# Altium schematic symbol library diodes-inc-mosfet.SchLib: 27 symbols
Pins are listed as number, name and electrical type; pins without a type are passive.

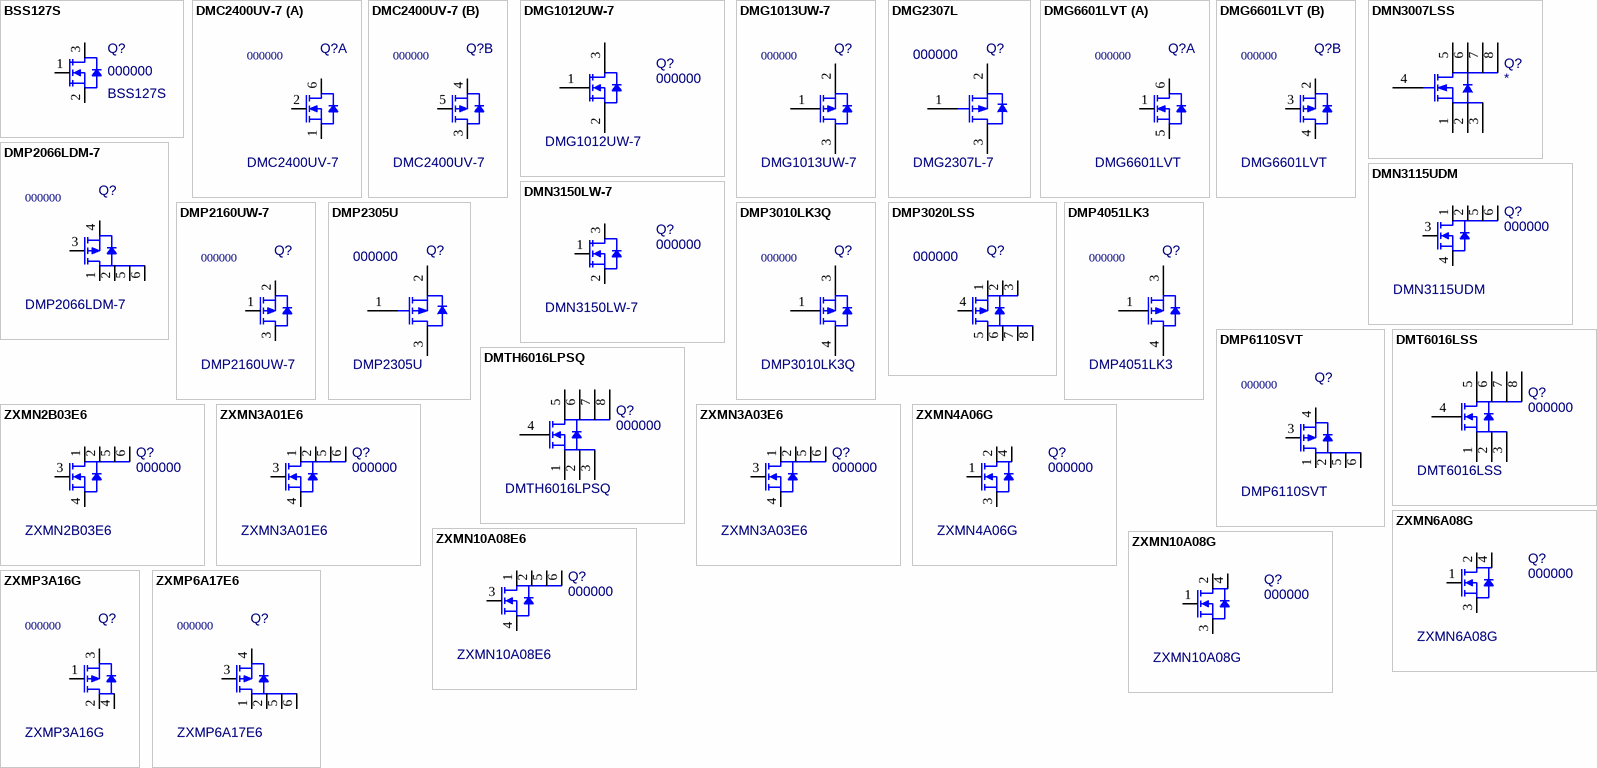
[diagram p0: symbols BSS127S to ZXMP6A17E6]

## BSS127S
designator Q?, comment 000000  value BSS127S
N-Channel MOSFET 600V 50mA; MF: Diodes Inc; MF PN: BSS127S-7; PN: 000000; Package: SOT-23; ExtraInfo: *; Price: 0.10350; Digi-Key PN: BSS127S-7DICT-ND
footprint SOT-23-M (SOT23, 3-Leads, Body 3.0x2.8mm (max), Pitch 0.95mm, Medium Density)
footprint SOT-23-HV (SOT23, 3-Leads, Body 3.0x2.8mm (max), Pitch 0.95mm, IPC High Density)
pins: 1 G, 2 S, 3 D

## DMC2400UV-7
designator Q?, comment 000000  value DMC2400UV-7
Complementary Pair MOSFET 30V 0.5A; MF: Diodes Inc; Package: SOT-363; PN: 000000; ExtraInfo: *
footprint SOT363-M (6-Lead Plastic surface-mounted package, 0.65mm pitch, SOT363/SC-88)
part A pins: 1 S1, 2 G1, 6 D1
part B pins: 3 D2, 4 S2, 5 G2

## DMG1012UW-7
designator Q?, comment 000000  value DMG1012UW-7
N-Channel MOSFET 20V 1A SOT-323; MF: Diodes Inc; PN: 000000; Package: SOT-323; ExtraInfo: *
footprint SOT-323 (SC-70/SOT323)
pins: 1 G, 2 S, 3 D

## DMG1013UW-7
designator Q?, comment 000000  value DMG1013UW-7
P-Channel MOSFET 20V 820mA SOT-323; MF: Diodes Inc; Package: SOT-323; PN: 000000; ExtraInfo: *
footprint SOT-323 (SC-70/SOT323)
pins: 1 G, 2 S, 3 D

## DMG2307L
designator Q?, comment 000000  value DMG2307L-7
P-Channel MOSFET 30V 2.5A SOT-23; MF: Diodes Inc; PN: 000000; Package: SOT-23; ExtraInfo: *
footprint SOT-23 (SOT23, 3-Leads, Body 3.0x2.8mm (max), Pitch 0.95mm, IPC High Density)
simulation model DMG2307L (---------- DMG2307L Spice Model ----------)
pins: 1 G, 2 S, 3 D

## DMG6601LVT
designator Q?, comment 000000  value DMG6601LVT
Complementary Pair MOSFET 30V 2.5A; MF: Diodes Inc; Package: SOT-26; PN: 000000; ExtraInfo: *
footprint SOT23-6-M (SOT23, 6-Leads, Body 3.0x3.0mm (max), Pitch 0.95mm, IPC Medium Density)
part A pins: 1 G1, 5 S1, 6 D1
part B pins: 2 S2, 3 G2, 4 D2

## DMN3007LSS
designator Q?
N-Channel MOSFET 30V 16A SO-8; PN: 000000; Value: DMN3007LSS; MF: Diodes Inc; Package: *; ExtraInfo: *
footprint SO-8 (SOIC, 8-Leads, Body 5.0x4.0mm (max), Pitch 1.27mm, IPC Medium Density)
pins: 1 S, 2 S, 3 S, 4 G, 5 D, 6 D, 7 D, 8 D

## DMN3115UDM
designator Q?, comment 000000  value DMN3115UDM
N-Channel MOSFET 30V 3.2A SOT-23-6; MF: Diodes Inc; PN: 000000; Package: SOT23-6; ExtraInfo: *
footprint SOT-26 (6-Lead Plastic Small Outline Transistor)
simulation model DI_DMN3115UDM (ZETEX ZXMN3A03E6 Spice Model v2.0 Last revision 15/03/07)
pins: 1 D, 2 D, 3 G, 4 S, 5 D, 6 D

## DMN3150LW-7
designator Q?, comment 000000  value DMN3150LW-7
N-Channel MOSFET 28V 1.6A SOT-323; MF: Diodes Inc; PN: 000000; Package: SOT-323; ExtraInfo: *
footprint SOT-323 (SC-70/SOT323)
simulation model DI_DMN3150LW (SRC=DMN3150LW;DI_DMN3150LW;MOSFETs N;Enh;28.0V 1.60A 88.0mohms  Diodes Inc MOSFET)
pins: 1 G, 2 S, 3 D

## DMP2066LDM-7
designator Q?, comment 000000  value DMP2066LDM-7
P-Channel MOSFET 20V - 4.6A SOT26; MF: Diodes Inc; Package: SOT-23-6; PN: 000000; ExtraInfo: *
footprint SOT-26 (6-Lead Plastic Small Outline Transistor - Medium Density)
simulation model DI_DMP2066LDM (DIODES_INC_SPICE_MODEL)
pins: 1 D, 2 D, 3 G, 4 S, 5 D, 6 D

## DMP2160UW-7
designator Q?, comment 000000  value DMP2160UW-7
P-Channel MOSFET 20V 1.5A SOT-323; MF: Diodes Inc; Package: SOT-323; PN: 000000; ExtraInfo: *
footprint SOT-323 (SC-70/SOT323)
pins: 1 G, 2 S, 3 D

## DMP2305U
designator Q?, comment 000000  value DMP2305U
P-Channel MOSFET 20V 4.2A SOT-23; MF: Diodes Inc; PN: 000000; Package: SOT-23; ExtraInfo: *
footprint SOT-23 (SOT23, 3-Leads, Body 3.0x2.8mm (max), Pitch 0.95mm, IPC High Density)
pins: 1 G, 2 S, 3 D

## DMP3010LK3Q
designator Q?, comment 000000  value DMP3010LK3Q
P-Channel MOSFET 30V, -17A; MF PN: DMP3010LK3Q-13; MF: Diodes Inc; Package: SOT-253-3; PN: 000000; ExtraInfo: *
footprint TO252-3 (D-PAK, 3-Pads, Body 6.20x6.72mm (max), IPC Medium Density)
pins: 1 G, 3 S, 4 D

## DMP3020LSS
designator Q?, comment 000000
P-Channel MOSFET -30V 12A SOP-8L; Value: DMP3020LSS; MF: Diodes Inc; Package: *; PN: 000000; ExtraInfo: *
footprint SO-8 (SOIC, 8-Leads, Body 5.0x4.0mm (max), Pitch 1.27mm, IPC Medium Density)
simulation model DI_DMP3020LSS (SRC=DMP3020LSS;DI_DMP3020LSS;MOSFETs P;Enh;30.0V 12.0A 25.0mohms  Diodes Inc MOSFET)
pins: 1 S, 2 S, 3 S, 4 G, 5 D, 6 D, 7 D, 8 D

## DMP4051LK3
designator Q?, comment 000000  value DMP4051LK3
P-Channel MOSFET 40V, -7.2A; MF: Diodes Inc; Package: SOT-253-3; PN: 000000; ExtraInfo: *
footprint TO252-3 (D-PAK, 3-Pads, Body 6.20x6.72mm (max), IPC Medium Density)
pins: 1 G, 3 S, 4 D

## DMP6110SVT
designator Q?, comment 000000  value DMP6110SVT
P-Channel MOSFET 60V -7.3A; MF: Diodes Inc; Package: SOT-23-6; PN: 000000; ExtraInfo: *
footprint SOT23-6-M (SOT23, 6-Leads, Body 3.0x3.0mm (max), Pitch 0.95mm, IPC Medium Density)
pins: 1 D, 2 D, 3 G, 4 S, 5 D, 6 D

## DMT6016LSS
designator Q?, comment 000000  value DMT6016LSS
N-Channel MOSFET 60V 9.2A; MF: Diodes Inc; PN: 000000; Package: SOIC-8; ExtraInfo: *
footprint SO-8 (SOIC, 8-Leads, Body 5.0x4.0mm (max), Pitch 1.27mm, IPC Medium Density)
pins: 1 S, 2 S, 3 S, 4 G, 5 D, 6 D, 7 D, 8 D

## DMTH6016LPSQ
designator Q?, comment 000000  value DMTH6016LPSQ
N-Channel MOSFET 60V 9.8A; MF: Diodes Inc; PN: 000000; Package: SOP-8; ExtraInfo: *
footprint POWERDI5060-8 (8-Leads, Body 5.0x6.0mm (max), Pitch 1.27mm, IPC Medium Density)
pins: 1 S, 2 S, 3 S, 4 G, 5 D, 6 D, 7 D, 8 D

## ZXMN2B03E6
designator Q?, comment 000000  value ZXMN2B03E6
N-Channel MOSFET 20V 4.3A SOT-23-6; MF: Diodes Inc; PN: 000000; Package: SOT23-6; ExtraInfo: *
footprint SOT-26 (6-Lead Plastic Small Outline Transistor)
simulation model ZXMN2B03E6 (Zetex ZXMN2B03E6 Spice Model v1.0 Last Revised 7/12/07)
pins: 1 D, 2 D, 3 G, 4 S, 5 D, 6 D

## ZXMN3A01E6
designator Q?, comment 000000  value ZXMN3A01E6
N-Channel MOSFET 30V 3A SOT-23-6; MF: Diodes Inc; PN: 000000; Package: SOT23-6; ExtraInfo: *
footprint SOT-26 (6-Lead Plastic Small Outline Transistor)
simulation model ZXMN3A01E6 (ZETEX ZXMN3A03E6 Spice Model v2.0 Last revision 15/03/07)
pins: 1 D, 2 D, 3 G, 4 S, 5 D, 6 D

## ZXMN3A03E6
designator Q?, comment 000000  value ZXMN3A03E6
N-Channel MOSFET 30V 3.7A SOT-23-6; MF: Diodes Inc; PN: 000000; Package: SOT23-6; ExtraInfo: *
footprint SOT-26 (6-Lead Plastic Small Outline Transistor)
simulation model ZXMN3A03E6 (ZETEX ZXMN3A03E6 Spice Model v2.0 Last revision 15/03/07)
pins: 1 D, 2 D, 3 G, 4 S, 5 D, 6 D

## ZXMN4A06G
designator Q?, comment 000000  value ZXMN4A06G
N-Channel MOSFET 40V 7A SOT-223; MF: Diodes Inc; PN: 000000; Package: SOT-223; ExtraInfo: *
footprint SOT223-3 (3-Lead Plastic Small Outline Transistor)
simulation model ZXMN4A06G (Zetex ZXMN4A06G Spice Model v3.0 Last Revised 4/12/07)
pins: 1 G, 2 D, 3 S, 4 D

## ZXMN6A08G
designator Q?, comment 000000  value ZXMN6A08G
N-Channel MOSFET 60V 5.3A SOT-223; MF: Diodes Inc; PN: 000000; Package: SOT-223; ExtraInfo: *
footprint SOT223-3 (3-Lead Plastic Small Outline Transistor)
simulation model ZXMN6A08G (Zetex ZXMN6A08G Spice Model v2.0 Last Revised 24/10/07)
pins: 1 G, 2 D, 3 S, 4 D

## ZXMN10A08E6
designator Q?, comment 000000  value ZXMN10A08E6
N-Channel MOSFET 100V 1.5A SOT-23-6; MF: Diodes Inc; PN: 000000; Package: SOT23-6; ExtraInfo: *
footprint SOT-26 (6-Lead Plastic Small Outline Transistor)
pins: 1 D, 2 D, 3 G, 4 S, 5 D, 6 D

## ZXMN10A08G
designator Q?, comment 000000  value ZXMN10A08G
N-Channel MOSFET 100V 2.9A SOT-223; MF: Diodes Inc; PN: 000000; Package: SOT-223; ExtraInfo: *
footprint SOT223-3 (3-Lead Plastic Small Outline Transistor)
simulation model ZXMN10A08G (DIODES_INC_SPICE_MODEL)
pins: 1 G, 2 D, 3 S, 4 D

## ZXMP3A16G
designator Q?, comment 000000  value ZXMP3A16G
P-Channel MOSFET 30V -5.9A SOT223; MF: Diodes Inc; Package: SOT-223; PN: 000000; ExtraInfo: *
footprint SOT223-3 (3-Lead Plastic Small Outline Transistor)
simulation model ZXMP3A16G (DIODES_INC_SPICE_MODEL)
pins: 1 G, 2 D, 3 S, 4 D

## ZXMP6A17E6
designator Q?, comment 000000  value ZXMP6A17E6
P-Channel MOSFET -60V -3A; MF: Diodes Inc; Package: SOT-23-6; PN: 000000; ExtraInfo: *
footprint SOT-26 (6-Lead Plastic Small Outline Transistor - Medium Density)
simulation model ZXMP6A17E6 (DIODES_INC_SPICE_MODEL)
pins: 1 D, 2 D, 3 G, 4 S, 5 D, 6 D